# Altium integrated library WE-LLCR Resonant Converter.IntLib: 9 symbols
Pins are listed as number, name and electrical type; pins without a type are passive.

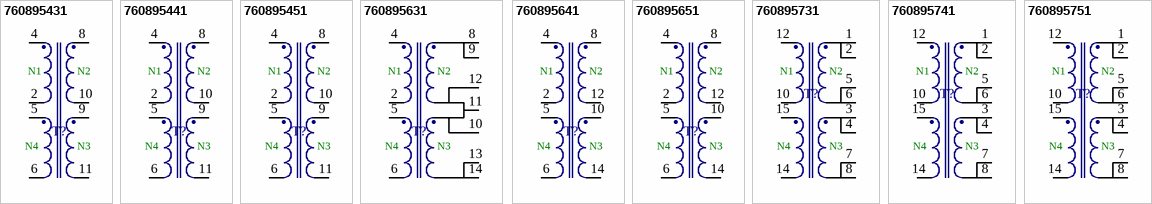
[diagram p0: symbols 760895431 to 760895751]

## 760895431
designator T?
Resonant Converter WE-LLCR, Ui=360-400 V (DC); PartNumber: 760895431; OutPut Voltage: 12 V; Output Current: 12.5A; PackageReference: ETD34; (Input Voltage) Ui: 360-400 V (DC); ComponentLink1Description: Manufacturer URL; ComponentLink1URL: http://www.we-online.com; ComponentLink2Description: Datasheet; ComponentLink2URL: http://katalog.we-online.de/pbs/datasheet/760895431.pdf
footprint ETD34 (THT Transformer, 14-Leads, Body 40.39 x 39.62mm)
pins: 2, 4, 5, 6, 8, 9, 10, 11
text: N1; N2; N4; N3

## 760895441
designator T?
Resonant Converter WE-LLCR, Ui=360-400 V (DC); PartNumber: 760895441; OutPut Voltage: 24 V; Output Current: 6.2A; PackageReference: ETD34; (Input Voltage) Ui: 360-400 V (DC); ComponentLink1Description: Manufacturer URL; ComponentLink1URL: http://www.we-online.com; ComponentLink2Description: Datasheet; ComponentLink2URL: http://katalog.we-online.de/pbs/datasheet/760895441.pdf
footprint ETD34 (THT Transformer, 14-Leads, Body 40.39 x 39.62mm)
pins: 2, 4, 5, 6, 8, 9, 10, 11
text: N1; N2; N4; N3

## 760895451
designator T?
Resonant Converter WE-LLCR, Ui=360-400 V (DC); PartNumber: 760895451; OutPut Voltage: 48 V; Output Current: 3.1A; PackageReference: ETD34; (Input Voltage) Ui: 360-400 V (DC); ComponentLink1Description: Manufacturer URL; ComponentLink1URL: http://www.we-online.com; ComponentLink2Description: Datasheet; ComponentLink2URL: http://katalog.we-online.de/pbs/datasheet/760895451.pdf
footprint ETD34 (THT Transformer, 14-Leads, Body 40.39 x 39.62mm)
pins: 2, 4, 5, 6, 8, 9, 10, 11
text: N1; N2; N4; N3

## 760895631
designator T?
Resonant Converter WE-LLCR, Ui=360-400 V (DC); PartNumber: 760895631; OutPut Voltage: 12 V; Output Current: 16.7A; PackageReference: ETD39; (Input Voltage) Ui: 360-400 V (DC); ComponentLink1Description: Manufacturer URL; ComponentLink1URL: http://www.we-online.com; ComponentLink2Description: Datasheet; ComponentLink2URL: http://katalog.we-online.de/pbs/datasheet/760895631.pdf
footprint ETD39 (THT Transformer, 16-Leads, Body 45.72 x 44.45mm)
pins: 2, 4, 5, 6, 8, 9, 10, 11, 12, 13, 14
text: N1; N2; N4; N3

## 760895641
designator T?
Resonant Converter WE-LLCR, Ui=360-400 V (DC); PartNumber: 760895641; OutPut Voltage: 24 V; Output Current: 8.3A; PackageReference: ETD39; (Input Voltage) Ui: 360-400 V (DC); ComponentLink1Description: Manufacturer URL; ComponentLink1URL: http://www.we-online.com; ComponentLink2Description: Datasheet; ComponentLink2URL: http://katalog.we-online.de/pbs/datasheet/760895641.pdf
footprint ETD39 (THT Transformer, 16-Leads, Body 45.72 x 44.45mm)
pins: 2, 4, 5, 6, 8, 10, 12, 14
text: N1; N2; N4; N3

## 760895651
designator T?
Resonant Converter WE-LLCR, Ui=360-400 V (DC); PartNumber: 760895651; OutPut Voltage: 48 V; Output Current: 4.2A; PackageReference: ETD39; (Input Voltage) Ui: 360-400 V (DC); ComponentLink1Description: Manufacturer URL; ComponentLink1URL: http://www.we-online.com; ComponentLink2Description: Datasheet; ComponentLink2URL: http://katalog.we-online.de/pbs/datasheet/760895651.pdf
footprint ETD39 (THT Transformer, 16-Leads, Body 45.72 x 44.45mm)
pins: 2, 4, 5, 6, 8, 10, 12, 14
text: N1; N2; N4; N3

## 760895731
designator T?
Resonant Converter WE-LLCR, Ui=360-400 V (DC); PartNumber: 760895731; OutPut Voltage: 12 V; Output Current: 20.8A; PackageReference: ETD44; (Input Voltage) Ui: 360-400 V (DC); ComponentLink1Description: Manufacturer URL; ComponentLink1URL: http://www.we-online.com; ComponentLink2Description: Datasheet; ComponentLink2URL: http://www.we-online.de/katalog/media/pdf/760895731.pdf
footprint ETD44 (THT Transformer, 12-Leads, Body 48 x 46 mm)
pins: 1, 2, 3, 4, 5, 6, 7, 8, 10, 12, 14, 15
text: N1; N2; N4; N3

## 760895741
designator T?
Resonant Converter WE-LLCR, Ui=360-400 V (DC); PartNumber: 760895741; OutPut Voltage: 24 V; Output Current: 10.4A; PackageReference: ETD44; (Input Voltage) Ui: 360-400 V (DC); ComponentLink1Description: Manufacturer URL; ComponentLink1URL: http://www.we-online.com; ComponentLink2Description: Datasheet; ComponentLink2URL: http://www.we-online.de/katalog/media/pdf/760895741.pdf
footprint ETD44 (THT Transformer, 12-Leads, Body 48 x 46 mm)
pins: 1, 2, 3, 4, 5, 6, 7, 8, 10, 12, 14, 15
text: N1; N2; N4; N3

## 760895751
designator T?
Resonant Converter WE-LLCR, Ui=360-400 V (DC); PartNumber: 760895751; OutPut Voltage: 48 V; Output Current: 5.2A; PackageReference: ETD44; (Input Voltage) Ui: 360-400 V (DC); ComponentLink1Description: Manufacturer URL; ComponentLink1URL: http://www.we-online.com; ComponentLink2Description: Datasheet; ComponentLink2URL: http://www.we-online.de/katalog/media/pdf/760895751.pdf
footprint ETD44 (THT Transformer, 12-Leads, Body 48 x 46 mm)
pins: 1, 2, 3, 4, 5, 6, 7, 8, 10, 12, 14, 15
text: N1; N2; N4; N3